# Altium integrated library RT9013-33GB.IntLib: 1 symbol
Pins are listed as number, name and electrical type; pins without a type are passive.

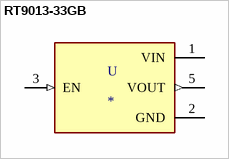
[diagram p0: symbol RT9013-33GB]

## RT9013-33GB
designator U
Linear Voltage Regulator IC 1 Output 500mA SOT-23-5; MF: Richtek USA; MP: RT9013-33GB; Availability: Unavailable; Price: None; SnapEDA_Link: https://www.snapeda.com/parts/RT9013-33GB/Richtek%20USA%20Inc./view-part/553199/?ref=snap; Value: *; Package: SOT-23-5 Richtek
footprint SOT94P279X129-5N
pins: 1 VIN (power), 2 GND (power), 3 EN (in), 5 VOUT (out)